# Altium schematic symbol library HDR_4POS.SchLib: 1 symbol
Pins are listed as number, name and electrical type; pins without a type are passive.

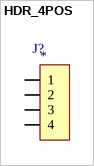
[diagram p0: symbol HDR_4POS]

## HDR_4POS
designator J?
Manufacturer Part Number: *
pins: 1, 2, 3, 4